# EAGLE library part MC9S08DV60-32 (library freescale-hcs08)
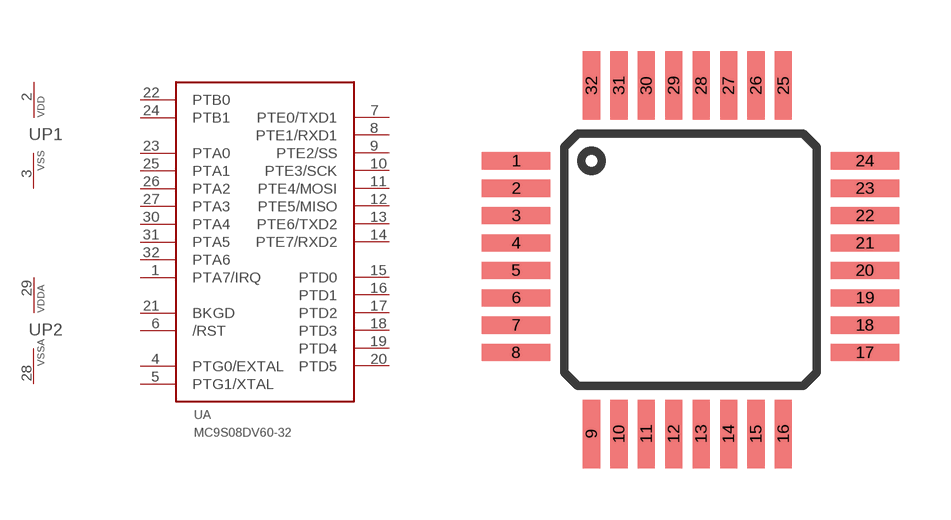
[diagram p3: symbol with the pads of LQFP32; footprint LQFP32]

Designator prefix -; gates A=MC9S08DV60-32 P1=VDD-VSS P2=VDDA-VSSA

## MC9S08DV60-32  [LQFP32]
1  A:PTA7/IRQ
2  P1:VDD  pwr
3  P1:VSS  pwr
4  A:PTG0/EXTAL
5  A:PTG1/XTAL
6  A:/RST
7  A:PTE0/TXD1
8  A:PTE1/RXD1
9  A:PTE2/SS
10  A:PTE3/SCK
11  A:PTE4/MOSI
12  A:PTE5/MISO
13  A:PTE6/TXD2
14  A:PTE7/RXD2
15  A:PTD0
16  A:PTD1
17  A:PTD2
18  A:PTD3
19  A:PTD4
20  A:PTD5
21  A:BKGD
22  A:PTB0
23  A:PTA0
24  A:PTB1
25  A:PTA1
26  A:PTA2
27  A:PTA3
28  P2:VSSA  pwr
29  P2:VDDA  pwr
30  A:PTA4
31  A:PTA5
32  A:PTA6

## Footprint LQFP32 (pad centres in mm)
smd 2 x 0.5: 1 -6.2,4; 2 -6.2,3.2; 3 -6.2,2.4; 4 -6.2,1.6; 5 -6.2,0.8; 6 -6.2,0; 7 -6.2,-0.8; 8 -6.2,-1.6; 17 3.978,-1.6; 18 3.978,-0.8; 19 3.978,0; 20 3.978,0.8; 21 3.978,1.6; 22 3.978,2.4; 23 3.978,3.2; 24 3.978,4
smd 0.5 x 2: 9 -4,-3.978; 10 -3.2,-3.978; 11 -2.4,-3.978; 12 -1.6,-3.978; 13 -0.8,-3.978; 14 0,-3.978; 15 0.8,-3.978; 16 1.6,-3.978; 25 1.6,6.2; 26 0.8,6.2; 27 0,6.2; 28 -0.8,6.2; 29 -1.6,6.2; 30 -2.4,6.2; 31 -3.2,6.2; 32 -4,6.2